# Altium footprint library 4脚3225晶振.PcbLib: 1 footprints
Each footprint in its own frame and in the unit in brackets; x right, y up, seen from the top. Pads: shape width x height; smd on the part's side, far side on the other; paste and mask are expansions set on the pad; w line width, h text height; cw(c..) or ccw(c..) is an arc to the next point about the centre after c.
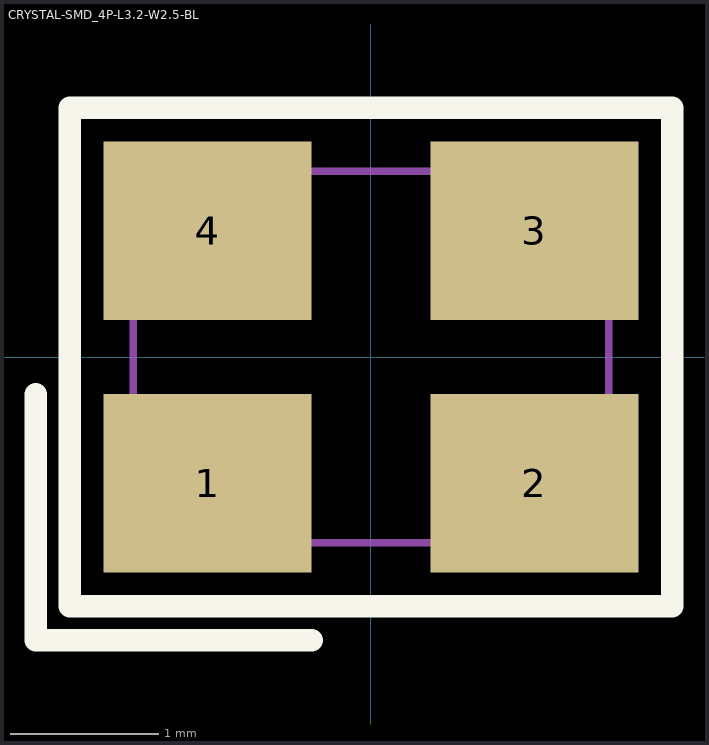
[diagram p0: the footprint, top view; thin cyan lines are the x and y axes]

## CRYSTAL-SMD_4P-L3.2-W2.5-BL [mm]
pads (4):
  rect 1.4x1.2 smd: 1(-1.1,-0.85) 2(1.1,-0.85) 3(1.1,0.85) 4(-1.1,0.85)
Top Overlay:
  lines w0.152: -2.257,-0.25 -2.257,-1.907 -0.4,-1.907 ; -2.029,-1.678 -2.029,1.679 2.029,1.679 2.029,-1.678 -2.029,-1.678
Mechanical 6:
  circle w0.36: c-1.143,-0.889 r0.18
Mechanical 15:
  region: -1.54,-1.25 -1.54,-1.225 -1.575,-1.19 -1.625,-1.19 -1.66,-1.225 -1.66,-1.25 -1.66,-1.275 -1.625,-1.31 -1.575,-1.31 -1.54,-1.275 -1.54,-1.25
  region: -1.5,1.15 -0.6,1.15 -0.6,0.35 -1.5,0.35
  region: 0.6,1.15 1.5,1.15 1.5,0.35 0.6,0.35
  region: 0.6,-0.35 1.5,-0.35 1.5,-1.15 0.6,-1.15
  region: -1.5,-0.35 -0.6,-0.35 -0.6,-1.15 -1.5,-1.15
  lines w0.051: -1.6,-1.25 -1.6,1.25 1.6,1.25 1.6,-1.25 -1.6,-1.25
3D body "4脚3225晶振.SLDPRT": height 0.82, standoff 0.01, extent -1.591,-1.25 1.609,1.25